# Altium footprint library ACNV4506-300E.PcbLib: 1 footprints
Each footprint in its own frame and in the unit in brackets; x right, y up, seen from the top. Pads: shape width x height; smd on the part's side, far side on the other; paste and mask are expansions set on the pad; w line width, h text height; cw(c..) or ccw(c..) is an arc to the next point about the centre after c.
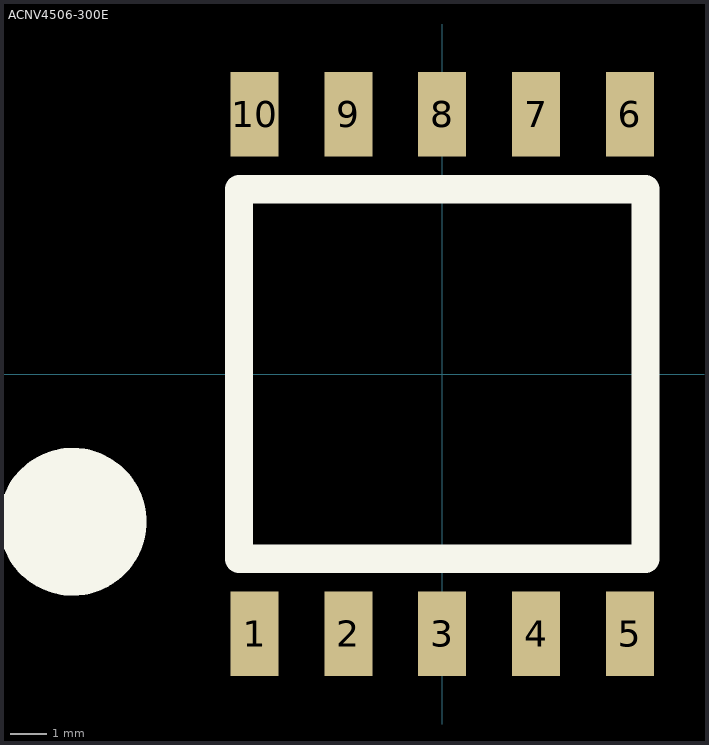
[diagram p0: the footprint, top view; thin cyan lines are the x and y axes]

## ACNV4506-300E [mm]
pads (10):
  rect 1.3x2.29 smd: 1(-5.08,-7.03) 2(-2.54,-7.03) 3(0,-7.03) 4(2.54,-7.03) 5(5.08,-7.03) 6(5.08,7.03) 7(2.54,7.03) 8(0,7.03) 9(-2.54,7.03) 10(-5.08,7.03)
Top Overlay:
  circle w2: c-10,-4 r1
  lines w0.762: -5.5,-5 -5.5,5 5.5,5 5.5,-5 -5.5,-5